# EAGLE library part M55-6021242R (library M55-6021242R)
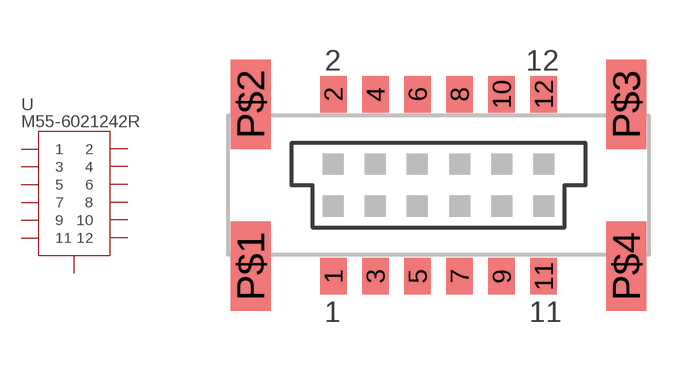
[diagram p0: symbol with the pads of M55-6021242R; footprint M55-6021242R]

Designator prefix -

## M55-6021242R  [M55-6021242R]
1  1
2  2
3  3
4  4
5  5
6  6
7  7
8  8
9  9
10  10
11  11
12  12
P$1  GND
P$2  GND
P$3  GND
P$4  GND

## Footprint M55-6021242R (pad centres in mm)
smd 0.8 x 1.1: 1 -3.175,-2.75; 2 -3.175,2.75; 3 -1.905,-2.75; 4 -1.905,2.75; 5 -0.635,-2.75; 6 -0.635,2.75; 7 0.635,-2.75; 8 0.635,2.75; 9 1.905,-2.75; 10 1.905,2.75; 11 3.175,-2.75; 12 3.175,2.75
smd 1.2 x 2.7: P$1 -5.67,-2.45; P$2 -5.67,2.45; P$3 5.67,2.45; P$4 5.67,-2.45